# EAGLE library part AK9750 (library SparkFun-Sensors)
AK9750/AK9753 Human Movement Sensor
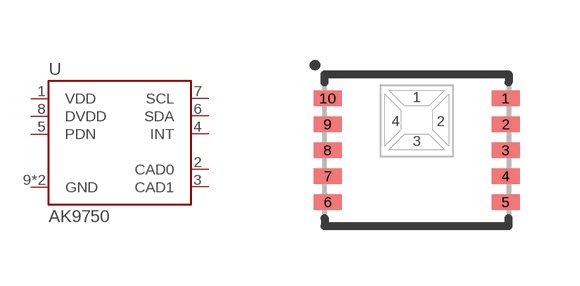
[diagram p55: symbol with the pads of SON10; footprint SON10]

Designator prefix U

## AK9750 (PROD_ID: SEN-13737; VALUE: AK9750)  [SON10]
1  VDD
2  CAD0
3  CAD1
4  INT
5  PDN
6  SDA
7  SCL
8  DVDD
9  GND
10  GND

## AK9750" (PROD_ID: SEN_13772; VALUE: AK9753)  [SON10]
1  GND
2  GND
3  DVDD
4  SCL
5  SDA
6  PDN
7  INT
8  CAD1
9  CAD0
10  VDD

## Footprint SON10 (pad centres in mm)
smd 0.7 x 0.38: 1 2.225,1.3; 2 2.225,0.65; 3 2.225,0; 4 2.225,-0.65; 5 2.225,-1.3; 6 -2.225,-1.3; 7 -2.225,-0.65; 8 -2.225,0; 9 -2.225,0.65; 10 -2.225,1.3